# EAGLE library part MC1496DR2G (library ON_Semiconductor_By_element14_Batch_1)
Balanced Modulators/Demodulators
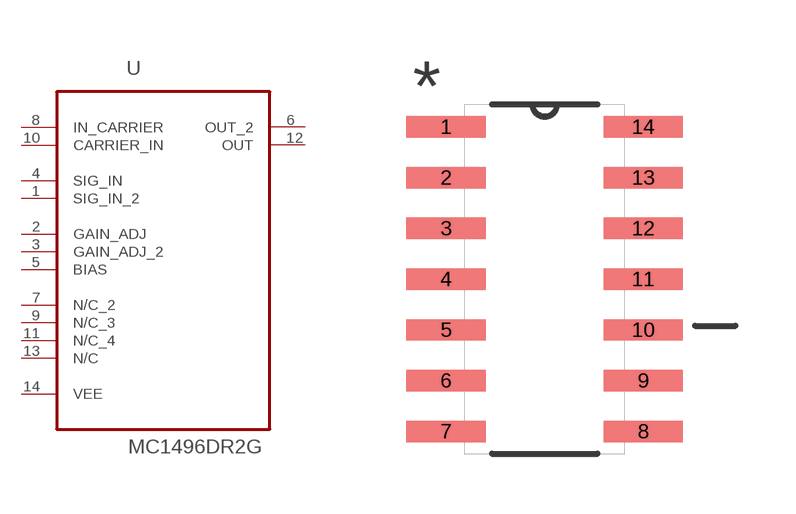
[diagram p316: symbol with the pads of SOIC127P600X175-14N; footprint SOIC127P600X175-14N]

Designator prefix U

## MC1496DR2G (MPN: MC1496DR2G; OC_FARNELL: 1651904; OC_NEWARK: 45J1148; PACKAGE: SOIC-14; SUPPLIER: ON SEMICONDUCTOR)  [SOIC127P600X175-14N]
1  SIG_IN_2  in
2  GAIN_ADJ  in
3  GAIN_ADJ_2  in
4  SIG_IN  in
5  BIAS  in
6  OUT_2  out
7  N/C_2  nc
8  IN_CARRIER  pwr
9  N/C_3  nc
10  CARRIER_IN  pwr
11  N/C_4  nc
12  OUT  out
13  N/C  nc
14  VEE  pas

## Footprint SOIC127P600X175-14N (pad centres in mm)
smd 1.981 x 0.533: 1 -2.464,3.81; 2 -2.464,2.54; 3 -2.464,1.27; 4 -2.464,0; 5 -2.464,-1.27; 6 -2.464,-2.54; 7 -2.464,-3.81; 8 2.464,-3.81; 9 2.464,-2.54; 10 2.464,-1.27; 11 2.464,0; 12 2.464,1.27; 13 2.464,2.54; 14 2.464,3.81